# Altium footprint library Kondensator_DIP.PcbLib: 221 footprints (part 4 of 14)
Each footprint in its own frame and in the unit in brackets; x right, y up, seen from the top. Pads: shape width x height; smd on the part's side, far side on the other; paste and mask are expansions set on the pad; w line width, h text height; cw(c..) or ccw(c..) is an arc to the next point about the centre after c.
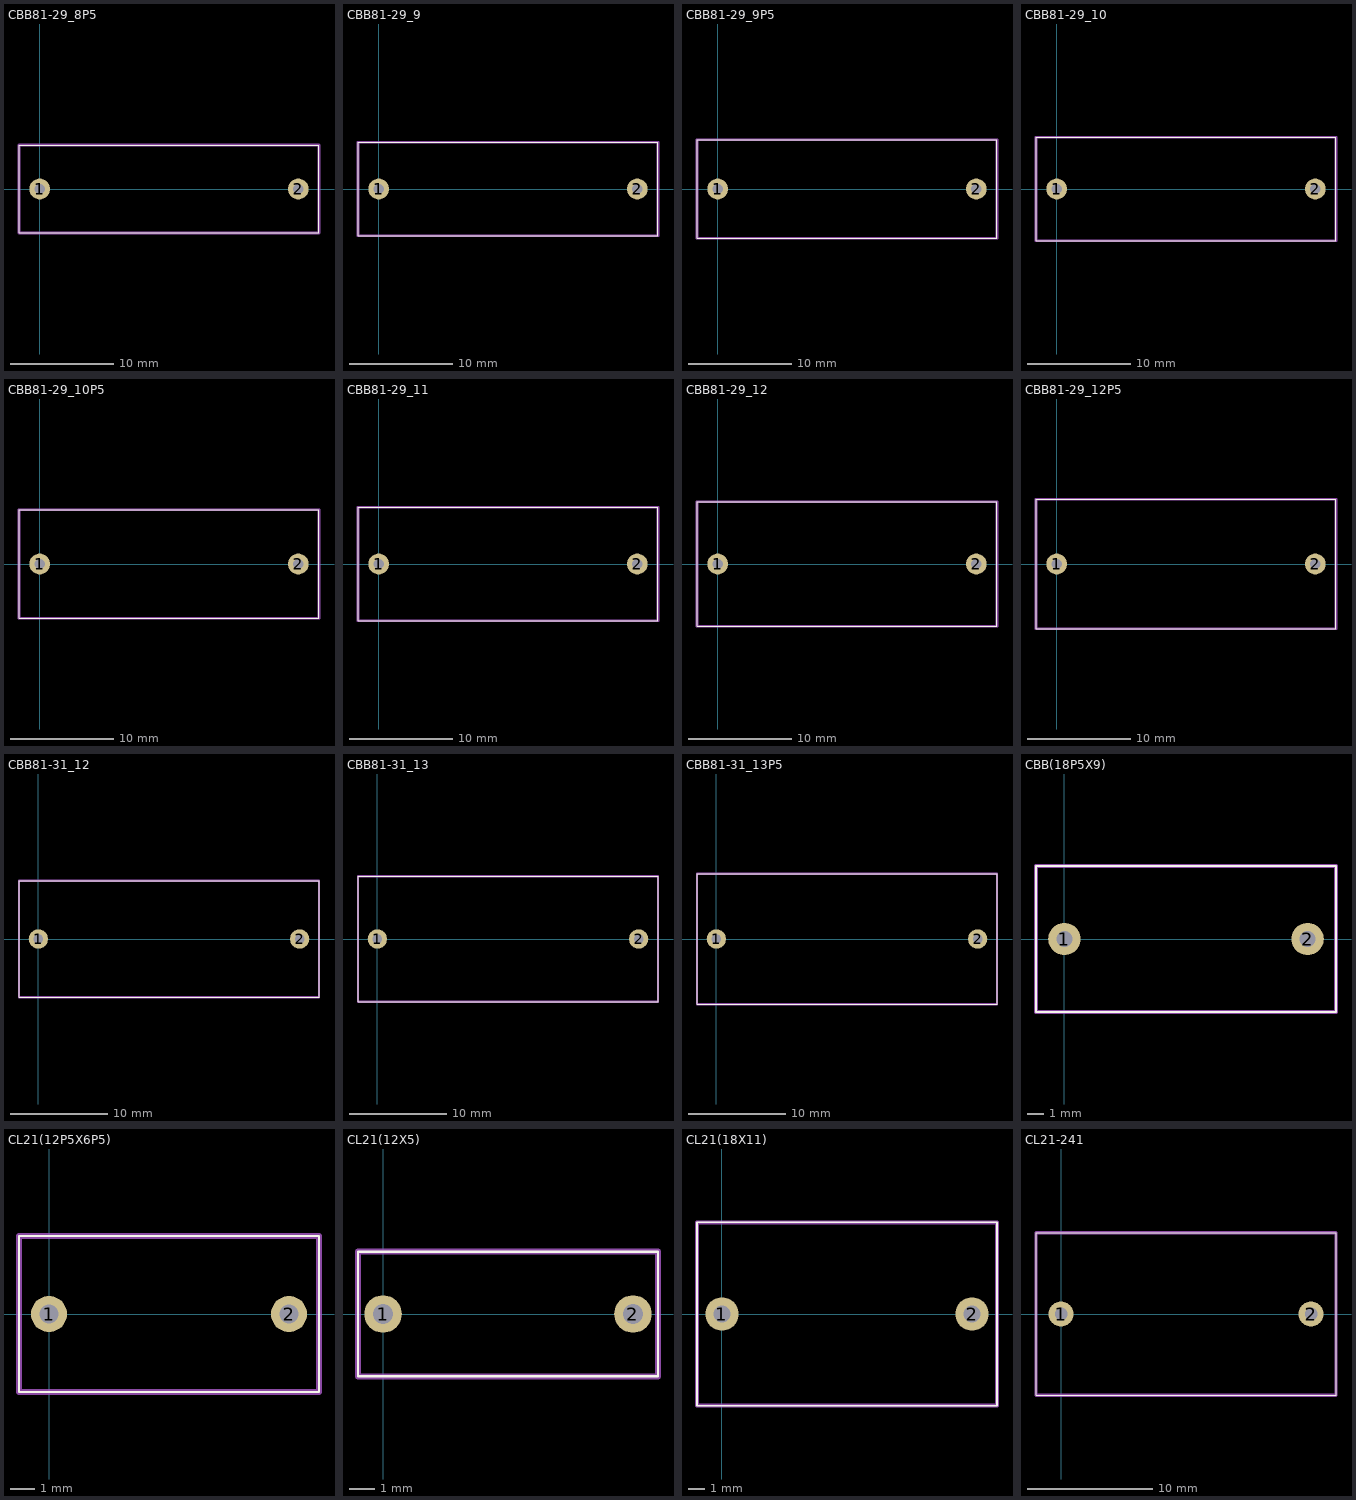
[diagram p3: the footprints below, top view; thin cyan lines are the x and y axes]

## CBB81-29_8P5 [mm]
pads (2):
  round 2 hole 1: 1(0,0) 2(25,0)
Top Overlay:
  lines w0.1: -2,-4.25 27,-4.25 27,4.25 -2,4.25 -2,-4.25
Mechanical 1:
  lines w0.25: -2,-4.25 27,-4.25 27,4.25 -2,4.25 -2,-4.25

## CBB81-29_9 [mm]
pads (2):
  round 2 hole 1: 1(0,0) 2(25,0)
Top Overlay:
  lines w0.1: -2,-4.5 27,-4.5 27,4.5 -2,4.5 -2,-4.5
Mechanical 1:
  lines w0.25: -2,-4.5 27,-4.5 27,4.5 -2,4.5 -2,-4.5

## CBB81-29_9P5 [mm]
pads (2):
  round 2 hole 1: 1(0,0) 2(25,0)
Top Overlay:
  lines w0.1: -2,-4.75 27,-4.75 27,4.75 -2,4.75 -2,-4.75
Mechanical 1:
  lines w0.25: -2,-4.75 27,-4.75 27,4.75 -2,4.75 -2,-4.75

## CBB81-29_10 [mm]
pads (2):
  round 2 hole 1: 1(0,0) 2(25,0)
Top Overlay:
  lines w0.1: -2,-5 27,-5 27,5 -2,5 -2,-5
Mechanical 1:
  lines w0.25: -2,-5 27,-5 27,5 -2,5 -2,-5

## CBB81-29_10P5 [mm]
pads (2):
  round 2 hole 1: 1(0,0) 2(25,0)
Top Overlay:
  lines w0.1: -2,-5.25 27,-5.25 27,5.25 -2,5.25 -2,-5.25
Mechanical 1:
  lines w0.25: -2,-5.25 27,-5.25 27,5.25 -2,5.25 -2,-5.25

## CBB81-29_11 [mm]
pads (2):
  round 2 hole 1: 1(0,0) 2(25,0)
Top Overlay:
  lines w0.1: -2,-5.5 27,-5.5 27,5.5 -2,5.5 -2,-5.5
Mechanical 1:
  lines w0.25: -2,-5.5 27,-5.5 27,5.5 -2,5.5 -2,-5.5

## CBB81-29_12 [mm]
pads (2):
  round 2 hole 1: 1(0,0) 2(25,0)
Top Overlay:
  lines w0.1: -2,-6 27,-6 27,6 -2,6 -2,-6
Mechanical 1:
  lines w0.25: -2,-6 27,-6 27,6 -2,6 -2,-6

## CBB81-29_12P5 [mm]
pads (2):
  round 2 hole 1: 1(0,0) 2(25,0)
Top Overlay:
  lines w0.1: -2,-6.25 27,-6.25 27,6.25 -2,6.25 -2,-6.25
Mechanical 1:
  lines w0.25: -2,-6.25 27,-6.25 27,6.25 -2,6.25 -2,-6.25

## CBB81-31_12 [mm]
pads (2):
  round 2 hole 1: 1(0,0) 2(27,0)
Top Overlay:
  lines w0.1: -2,-6 29,-6 29,6 -2,6 -2,-6
Mechanical 1:
  lines w0.25: -2,-6 29,-6 29,6 -2,6 -2,-6

## CBB81-31_13 [mm]
pads (2):
  round 2 hole 1: 1(0,0) 2(27,0)
Top Overlay:
  lines w0.1: -2,-6.5 29,-6.5 29,6.5 -2,6.5 -2,-6.5
Mechanical 1:
  lines w0.25: -2,-6.5 29,-6.5 29,6.5 -2,6.5 -2,-6.5

## CBB81-31_13P5 [mm]
pads (2):
  round 2 hole 1: 1(0,0) 2(27,0)
Top Overlay:
  lines w0.1: -2,-6.75 29,-6.75 29,6.75 -2,6.75 -2,-6.75
Mechanical 1:
  lines w0.25: -2,-6.75 29,-6.75 29,6.75 -2,6.75 -2,-6.75

## CBB(18P5X9) [mm]
pads (2):
  round 2 hole 1: 1(0,0) 2(15,0)
Top Overlay:
  lines w0.1: -1.75,-4.5 16.75,-4.5 16.75,4.5 -1.75,4.5 -1.75,-4.5
Mechanical 1:
  lines w0.25: -1.75,-4.5 16.75,-4.5 16.75,4.5 -1.75,4.5 -1.75,-4.5

## CL21(12P5X6P5) [mm]
pads (2):
  round 1.5 hole 0.8: 1(0,0) 2(10,0)
Top Overlay:
  lines w0.1: -1.25,-3.25 11.25,-3.25 11.25,3.25 -1.25,3.25 -1.25,-3.25
Mechanical 1:
  lines w0.25: -1.25,-3.25 11.25,-3.25 11.25,3.25 -1.25,3.25 -1.25,-3.25

## CL21(12X5) [mm]
pads (2):
  round 1.5 hole 0.8: 1(0,0) 2(10,0)
Top Overlay:
  lines w0.1: -1,-2.5 11,-2.5 11,2.5 -1,2.5 -1,-2.5
Mechanical 1:
  lines w0.25: -1,-2.5 11,-2.5 11,2.5 -1,2.5 -1,-2.5

## CL21(18X11) [mm]
pads (2):
  round 2 hole 1: 1(0,0) 2(15,0)
Top Overlay:
  lines w0.1: -1.5,-5.5 16.5,-5.5 16.5,5.5 -1.5,5.5 -1.5,-5.5
Mechanical 1:
  lines w0.25: -1.5,-5.5 16.5,-5.5 16.5,5.5 -1.5,5.5 -1.5,-5.5

## CL21-241 [mm]
pads (2):
  round 2 hole 1: 1(0,0) 2(20,0)
Top Overlay:
  lines w0.1: -2,-6.5 22,-6.5 22,6.5 -2,6.5 -2,-6.5
Mechanical 1:
  lines w0.25: -2,-6.5 22,-6.5 22,6.5 -2,6.5 -2,-6.5